# Altium integrated library Linear Technology PMIC-Switching Reg LTC1174-LTC3901.IntLib: 2647 symbols (part 33 of 310)
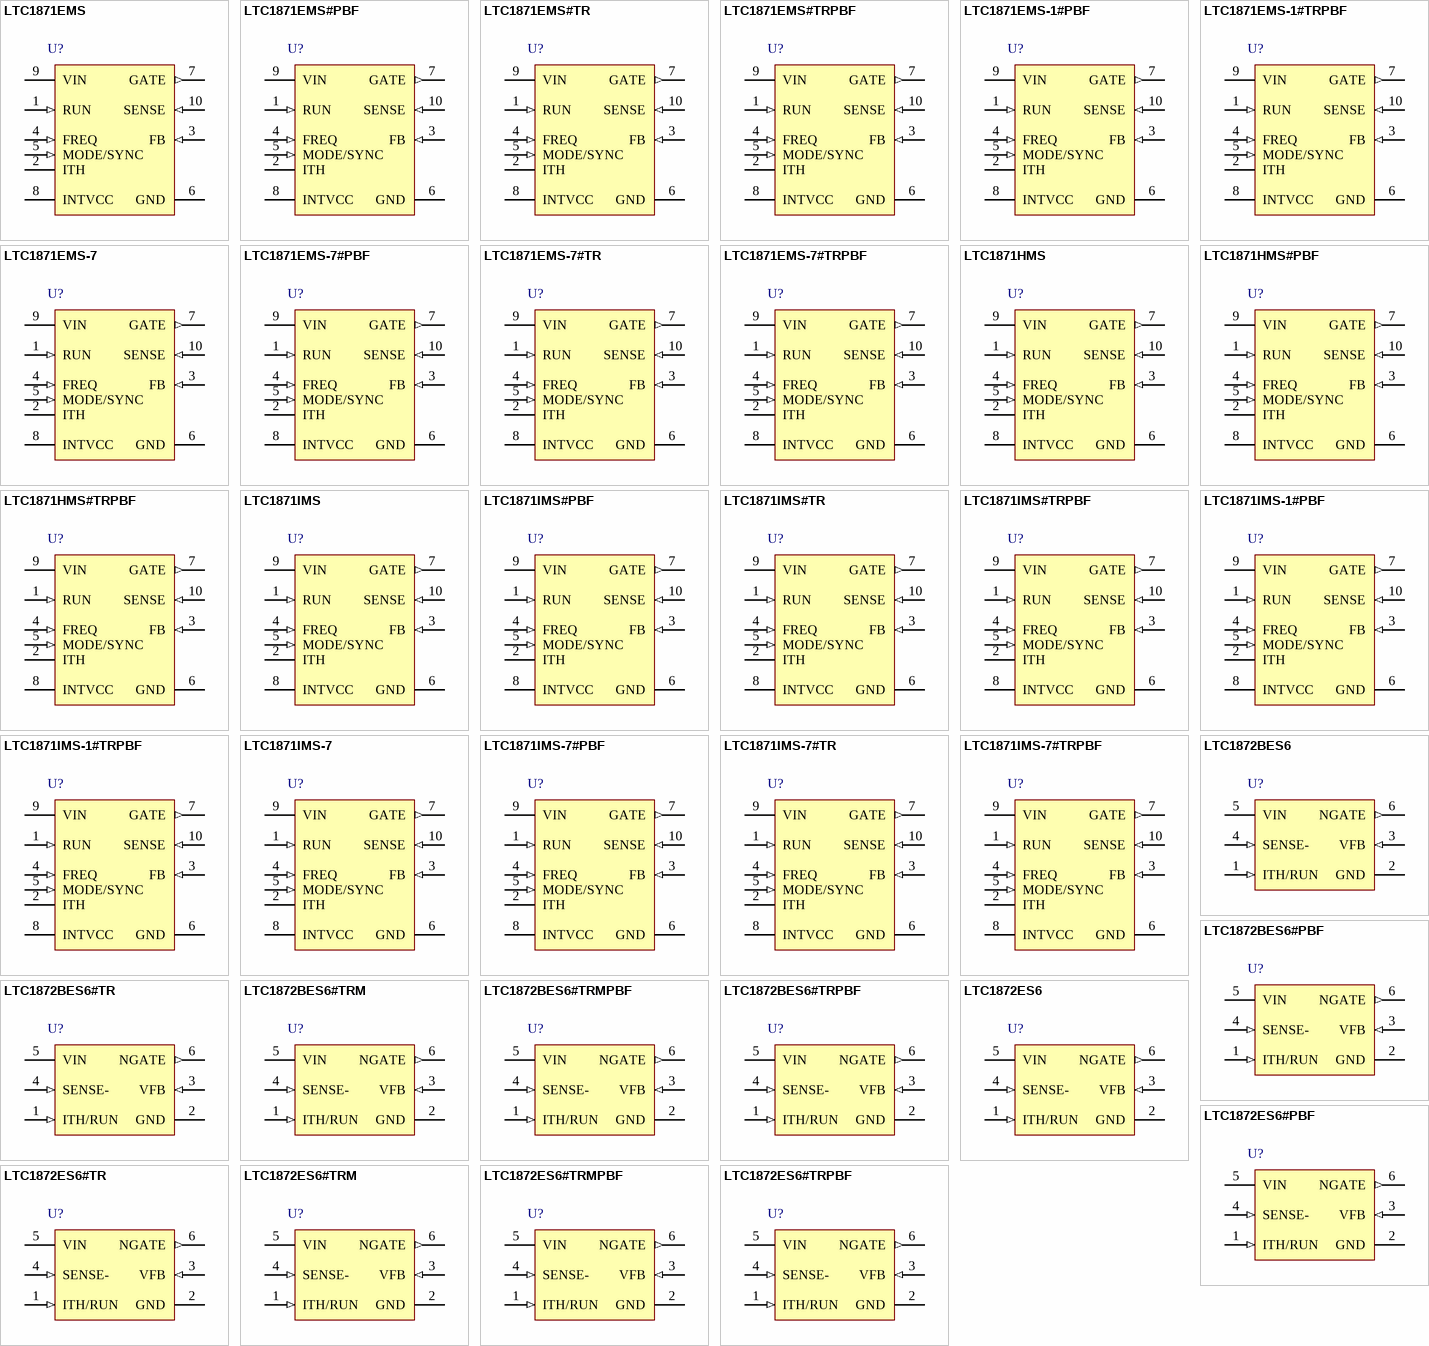
[diagram p234: symbols LTC1871EMS to LTC1872ES6#TRPBF]

## LTC1871EMS-7#TR
designator U?
Drives 6 V-Gate N-Channel MOSFETs for High Voltage Telecom and Automotive Apps, Frequency Set with Resistor, 10-pin SOP (MS-10), -40 to 85 degC, Tape and Reel; Manufacturer: Linear Technology; PartNumber: LTC1871EMS-7#TR; Number of Outputs: 1; PackageReference: MS-10; PackageDescription: 10-Pin Plastic MSOP, Body 3 x 3 mm, Pitch 0.5 mm; Supplier 1: Digi-Key; Supplier Part Number 1: LTC1871EMS-7#TR-ND; RoHS: FALSE
footprint LT-MS-10_N (SOP, 10-Leads, Body 3.1x3.1mm, Pitch 0.5mm, IPC Medium Density)
footprint LT-MS-10_L (SOP, 10-Leads, Body 3.1x3.1mm, Pitch 0.5mm, IPC High Density)
footprint LT-MS-10_M (SOP, 10-Leads, Body 3.1x3.1mm, Pitch 0.5mm, IPC Low Density)
pins: 1 RUN (in) "The RUN pin provides the user with an accurate means for sensing the input voltage and programming the start-up threshold for the converter. The falling RUN pin threshold is nominally 1.248V and the comparator has 100mV of (See Datasheet)", 2 ITH "Error Amplifier Compensation Pin. The current comparator input threshold increases with this control voltage. Nominal voltage range for this pin is 0V to 1.40V.", 3 FB (in) "Receives the feedback voltage from the external resistor divider across the output. Nominal voltage for this pin in regulation is 1.230V.", 4 FREQ (in) "A resistor from the FREQ pin to ground programs the operating frequency of the chip. The nominal voltage at the FREQ pin is 0.6V.", 5 MODE/SYNC (in) "This input controls the operating mode of the converter and allows for synchronizing the operating frequency to an external clock. If the MODE/ SYNC pin is connected to ground, Burst Mode operation is enabled. If the (See Datasheet)", 6 GND (power) "Ground Pin.", 7 GATE (out) "Gate Driver Output.", 8 INTVCC (power) "The Internal Regulator Output. The gate driver and control circuits are powered from this voltage. Decouple this pin locally to the IC ground with a minimum of 4.7uF low ESR tantalum or ceramic capacitor.", 9 VIN (power) "Main Supply Pin. Must be closely decoupled to ground.", 10 SENSE (in) "The Current Sense Input for the Control Loop. Connect this pin to a resistor in the source of the power MOSFET. Alternatively, the SENSE pin may be connected to the drain of the power MOSFET, in applications where the (See Datasheet)"

## LTC1871EMS-7#TRPBF
designator U?
Drives 6 V-Gate N-Channel MOSFETs for High Voltage Telecom and Automotive Apps, Frequency Set with Resistor, 10-pin SOP (MS-10), -40 to 85 degC, Pb-Free, Tape and Reel; Manufacturer: Linear Technology; PartNumber: LTC1871EMS-7#TRPBF; Number of Outputs: 1; PackageReference: MS-10; PackageDescription: 10-Pin Plastic MSOP, Body 3 x 3 mm, Pitch 0.5 mm; Supplier 1: Digi-Key; Supplier Part Number 1: LTC1871EMS-7#TRPBF-ND; RoHS: TRUE
footprint LT-MS-10_N (SOP, 10-Leads, Body 3.1x3.1mm, Pitch 0.5mm, IPC Medium Density)
footprint LT-MS-10_L (SOP, 10-Leads, Body 3.1x3.1mm, Pitch 0.5mm, IPC High Density)
footprint LT-MS-10_M (SOP, 10-Leads, Body 3.1x3.1mm, Pitch 0.5mm, IPC Low Density)
pins: 1 RUN (in) "The RUN pin provides the user with an accurate means for sensing the input voltage and programming the start-up threshold for the converter. The falling RUN pin threshold is nominally 1.248V and the comparator has 100mV of (See Datasheet)", 2 ITH "Error Amplifier Compensation Pin. The current comparator input threshold increases with this control voltage. Nominal voltage range for this pin is 0V to 1.40V.", 3 FB (in) "Receives the feedback voltage from the external resistor divider across the output. Nominal voltage for this pin in regulation is 1.230V.", 4 FREQ (in) "A resistor from the FREQ pin to ground programs the operating frequency of the chip. The nominal voltage at the FREQ pin is 0.6V.", 5 MODE/SYNC (in) "This input controls the operating mode of the converter and allows for synchronizing the operating frequency to an external clock. If the MODE/ SYNC pin is connected to ground, Burst Mode operation is enabled. If the (See Datasheet)", 6 GND (power) "Ground Pin.", 7 GATE (out) "Gate Driver Output.", 8 INTVCC (power) "The Internal Regulator Output. The gate driver and control circuits are powered from this voltage. Decouple this pin locally to the IC ground with a minimum of 4.7uF low ESR tantalum or ceramic capacitor.", 9 VIN (power) "Main Supply Pin. Must be closely decoupled to ground.", 10 SENSE (in) "The Current Sense Input for the Control Loop. Connect this pin to a resistor in the source of the power MOSFET. Alternatively, the SENSE pin may be connected to the drain of the power MOSFET, in applications where the (See Datasheet)"